# Altium schematic symbol library GENERIC_R0.Schlib: 1 symbol
Pins are listed as number, name and electrical type; pins without a type are passive.

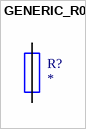
[diagram p0: symbol GENERIC_R0]

## GENERIC_R0
designator R?
GENERIC_R0
pins: 1, 2